# Altium footprint library PCB - CAPACITOR - MLCC - CAP 0_2 RADIAL DISC.PCBLIB: 1 footprints
Each footprint in its own frame and in the unit in brackets; x right, y up, seen from the top. Pads: shape width x height; smd on the part's side, far side on the other; paste and mask are expansions set on the pad; w line width, h text height; cw(c..) or ccw(c..) is an arc to the next point about the centre after c.
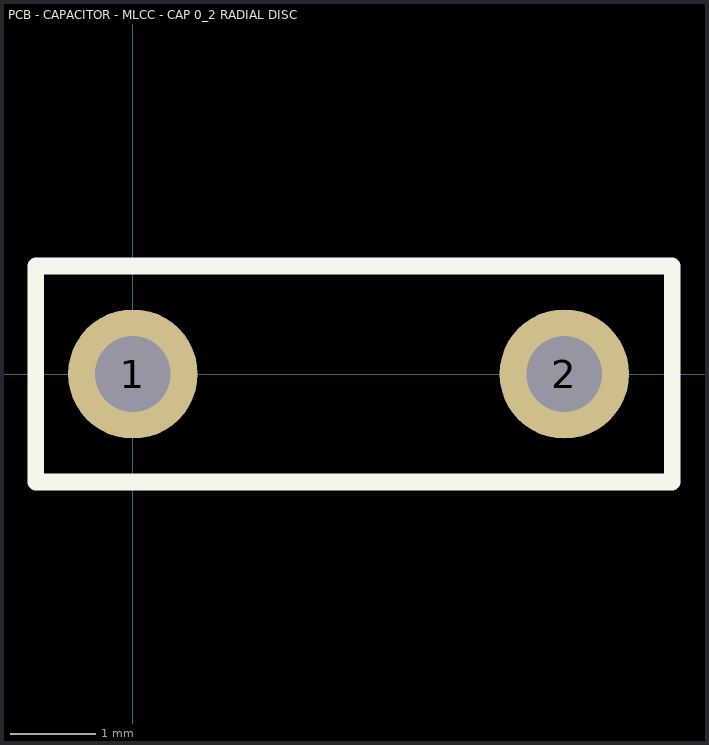
[diagram p0: the footprint, top view; thin cyan lines are the x and y axes]

## PCB - CAPACITOR - MLCC - CAP 0_2 RADIAL DISC [mil]
pads (2):
  round 60 hole 35: 1(0,0) 2(200,0)
Top Overlay:
  lines w7.8: -45,-50 250,-50 250,50 -45,50 -45,-50
3D body "CAPRB500W60L1100T300H1400-120_Vishay_H_Series.STEP": height 551.1, standoff -118.11, extent -123.63,-106.1 323.63,106.1